# EAGLE library part 629104151021 (library Wurth_Elektronik_Electromechanic_Input-Output_Connectors_rev16a)
WR-COM_USB_Type A_Horizontal_SMT ; Type A Horizontal SMT - with Pegs - T&R Packaging Code : Con_I-O_COM_USB_2.0_A_629104151021_629104151021 <http://katalog.we-online.de/media/images/eican/Con_I-O_COM_USB_2.0_A_629104151021_pf2.jpg> Details see: http://katalog.we-online.de/em/datasheet/629104151021.pdf Created 12/08/2014, Dan Xu 2014 (C) Wurth Elektronik
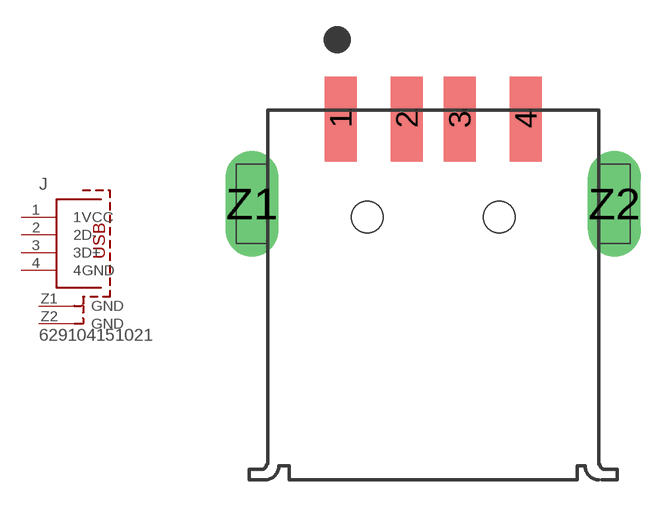
[diagram p179: symbol with the pads of 629104151021; footprint 629104151021]

Designator prefix J

## 629104151021  [629104151021]
1  1VCC
2  2D-
3  3D+
4  4GND
Z1  GND
Z2  GND

## Footprint 629104151021 (pad centres in mm)
629104151021 WR-COM_USB_Type A_Horizontal_SMT Type A Horizontal SMT - with Pegs - T&R Packaging
smd 1.2 x 3.2: 1 -3.5,3.7; 2 -1,3.7; 3 1,3.7; 4 3.5,3.7
drill 1.2 pad 2 long: Z1 -6.85,0.5; Z2 6.85,0.5
hole 1.2 at -2.5,0
hole 1.2 at 2.5,0